# EAGLE library part LM339_DEV (library LM339_SYM)
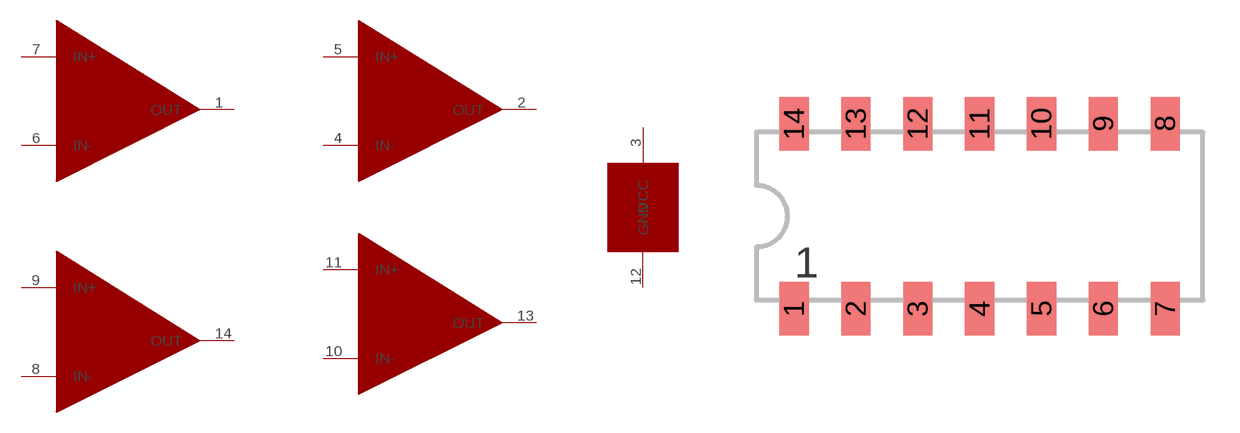
[diagram p0: symbol with the pads of DIP14; footprint DIP14]

Designator prefix -; gates G$1=LM339 G$2=LM339 G$3=LM339 G$4=LM339 G$5=LM339_SYM

## LM339_DEV  [DIP14]
1  G$1:OUT
2  G$2:OUT
3  G$5:VCC
4  G$2:IN-
5  G$2:IN+
6  G$1:IN-
7  G$1:IN+
8  G$3:IN-
9  G$3:IN+
10  G$4:IN-
11  G$4:IN+
12  G$5:GND
13  G$4:OUT
14  G$3:OUT

## Footprint DIP14 (pad centres in mm)
SMD DIL14 dual in line package
smd 1.2 x 2.2: 1 -7.62,-3.8; 2 -5.08,-3.8; 3 -2.54,-3.8; 4 0,-3.8; 5 2.54,-3.8; 6 5.08,-3.8; 7 7.62,-3.8; 8 7.62,3.8; 9 5.08,3.8; 10 2.54,3.8; 11 0,3.8; 12 -2.54,3.8; 13 -5.08,3.8; 14 -7.62,3.8